# Altium schematic symbol library audio_mic_spk.SchLib: 27 symbols
Pins are listed as number, name and electrical type; pins without a type are passive.

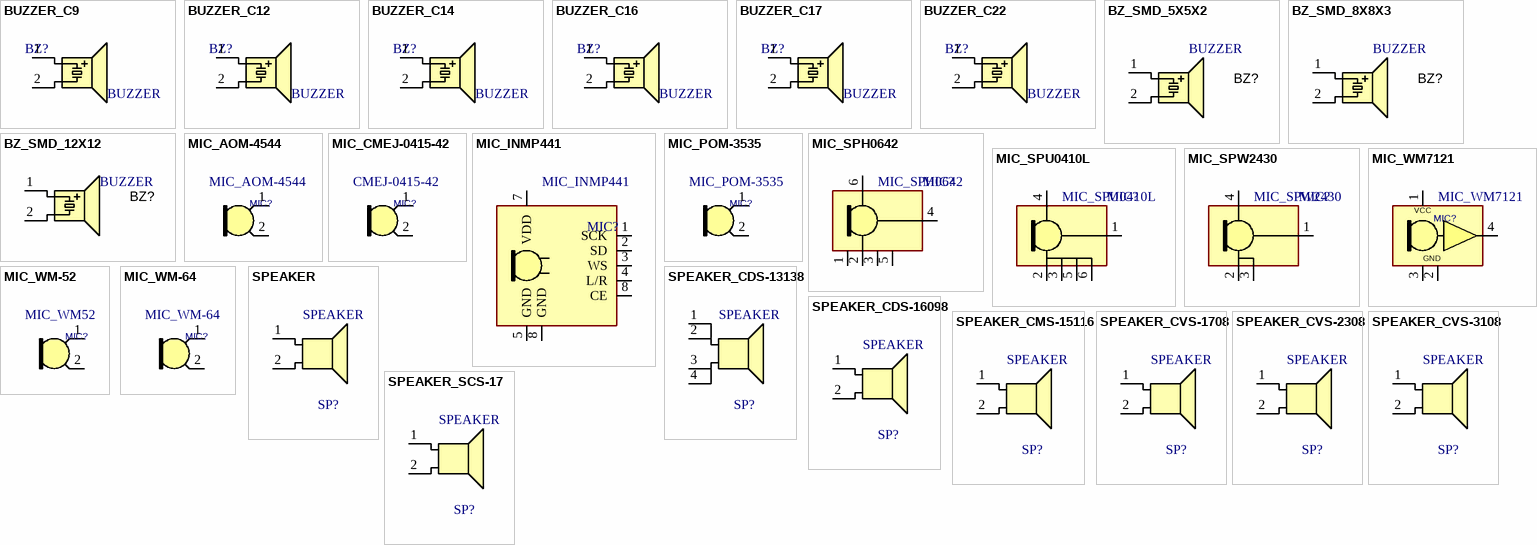
[diagram p0: symbols BUZZER_C9 to SPEAKER_SCS-17]

## BUZZER_C9
designator BZ?, comment BUZZER
Buzzer, 9mm, Magnetic Transducer; MANF: Mallory; MANF_P#: PB-09N23P-03Q; PARAM2: 3V, 30mA; PARAM: 2.7KHz; PRICE: $3; VALUE: BUZZER
footprint BZ_C9 (BUZZER 9mm DIA, 7.62mm pitch)
pins: 1 A, 2 B

## BUZZER_C12
designator BZ?, comment BUZZER
Buzzer, 12X8.5mm, Magnetic Transducer; MANF: Buerklin, CUI; MANF_P#: CM12P, MT03-H1BHP, BMT1205XH7.5, CEM-1201(50); PARAM2: 3~7VCC; PARAM: 2048 ±200 Hz; PRICE: PRICE; VALUE: BUZZER
footprint BZ_C12 (BUZZER 12mm DIA, 8.5mm Height , 7.62mm pitch)
pins: 1 A, 2 B

## BUZZER_C14
designator BZ?, comment BUZZER
Buzzer, 14mm, Magnetic Transducer; MANF: TDK; MANF_P#: PS1440P02BT; PARAM2: 3V; PARAM: 4KHz; PRICE: $0.7; VALUE: BUZZER
footprint BZ_C14 (BUZZER 12mm DIA, 8.5mm Height , 7.62mm pitch)
pins: 1 A, 2 B

## BUZZER_C16
designator BZ?, comment BUZZER
Buzzer, 16mm, Magnetic Transducer; MANF: CUI; MANF_P#: CMI-1614C-120; PARAM2: 12V, 30mA; PARAM: 2.2KHz; PRICE: $3; VALUE: BUZZER
footprint BZ_C16 (BUZZER 16mm DIA, 14mm Height , 7.62mm pitch)
pins: 1 A, 2 B

## BUZZER_C17
designator BZ?, comment BUZZER
Buzzer, 17X4.6mm, Magnetic Transducer; MANF: TDK; MANF_P#: PS1720P02; PARAM2: 3V; PARAM: 2KHz, 70dB; PRICE: $0.7; VALUE: BUZZER
footprint BZ_C17 (BUZZER 17mm DIA, 4.6mm Height , 10mm pitch)
pins: 1 A, 2 B

## BUZZER_C22
designator BZ?, comment BUZZER
Buzzer, 22mm, Magnetic Transducer; MANF: Kobitone; MANF_P#: 254-PB508-ROX; PARAM2: 30V, 4mA; PARAM: 4KHz, 90dB; PRICE: $2; VALUE: BUZZER
footprint BZ_C22 (BUZZER, BUZZER 22mm DIA,)
pins: 1 A, 2 B

## BZ_SMD_5X5X2
designator BZ?, comment BUZZER
Buzzer, SMD, sealed 5.0x5.0x2.1mm LWH 3Vp; PARAM: 4000 ±500 Hz, Magnetic; PARAM2: 4kHz, 78dBA @ 10cm; MANF: PUI Audio, Inc.; MANF_P#: SMT-0540-T-7-R; PRICE: PRICE; Value: BUZZER
footprint BZ_SMD_S5 (Buzzer SMD sealed 5.0 L x 5.0 W x 2.0mm H 5Vp)
pins: 1 A, 2 B

## BZ_SMD_8X8X3
designator BZ?, comment BUZZER
Buzzer, SMD, sealed 8.5x8.5x3mm LWH , 3Vp; PARAM: 2700 Hz, Magnetic; PARAM2: 2.7kHz, 85dBA @ 10cm; MANF: cre-sound; MANF_P#: LET8530BS-03L-2.7-16-R; PRICE: 2t@Javan; Value: BUZZER
footprint BZ_SMD_S8 (Buzzer SMD sealed 8.5 L x 8.5 W x 3.0mm H 3Vp)
pins: 1 A, 2 B

## BZ_SMD_12X12
designator BZ?, comment BUZZER
Buzzer, SMD, 12.8X12.8X7.6mm LWH, Magnetic; PARAM: 2.4KHz, 87dB @ 5V, 10cm; PARAM2: 5VCC, 3~8V, 40mA; MANF: CUI, Mallory Sonalert; MANF_P#: CT-1205-SMT, ASI301Q; PRICE: PRICE; Value: BUZZER
footprint BZ_SMD_S12 (Buzzer SMD sealed 12.8 L x 12.8 W x 7.6mm H 5Vp, CT-1205-SMT)
pins: 1 A, 2 B

## MIC_AOM-4544
designator MIC?
MICROPHONE, 2.2KOHM -44DB TH; MANF: PUI; MANF_P#: AOM-4544P-2-R; PRICE: $1.6; Value: MIC_AOM-4544
footprint MIC_C6 (MIC, WM-63PR, POM-3535P-3-R)
pins: 1 OUT, 2 GND

## MIC_CMEJ-0415-42
designator MIC?, comment CMEJ-0415-42
MICROPHONE, OMNI 4X1.5mm 2.2k -42DB; MANF: CUI; PARAM: -42dB sens, 60 dB SNR, THD 1%; MANF_P#: CMEJ-0415-42-P; PARAM2: 2.2k; PRICE: 0.4$; Value: CMEJ-0415-42
footprint MIC_C4 (MIC, 4mm Diameter)
pins: 1 OUT, 2 GND

## MIC_INMP441
designator MIC?
MICROPHONE, Omnidirectional, I2S; MANF: InvenSense; MANF_P#: INMP441; PRICE: PRICE; VALUE: MIC_INMP441
footprint MIC_MP441 (MIC, 8-LEADS, 4.7X3.7mm, INMP441, ADMP441, LGA_CAV)
pins: 1 SCK, 2 SD, 3 WS, 4 L/R, 5 GND, 7 VDD, 8 CE, 8 GND

## MIC_POM-3535
designator MIC?
MICROPHONE, 2.2KOHM -35DB TH; MANF: PUI; MANF_P#: POM-3535P-3-R; PRICE: $3; Value: MIC_POM-3535
footprint MIC_C6 (MIC, WM-63PR, POM-3535P-3-R)
pins: 1 OUT, 2 GND

## MIC_SPH0642
designator MIC?
MICROPHONE, MEMS; MANF: Knowles; MANF_P#: SPH0642HT5H-1; PRICE: PRICE; VALUE: MIC_SPH0642
footprint MIC_SPH0642 (SPH0642HT5H-1 Knowles MIC-MEMS 6-LEADS, 3.5X2.65mm)
pins: 1 GND1, 2 GND2, 3 GND3, 4 OUT, 5 GND4, 6 VDD

## MIC_SPU0410L
designator MIC?
MICROPHONE, MEMS, 63dB SNR, 100~80kHz; MANF: Knowles; PARAM2: 1.5~3.6v; MANF_P#: SPU0410LR5H-QB; PARAM: 63dB SNR, 100~80kHz; PRICE: 1: 0.7$, 100: 0.45$; VALUE: MIC_SPU0410L
footprint MIC_SPU0410 (SPU0410LR5H, 3.76x3x1.1mm)
pins: 1 OUT, 2 GND1, 3 GND2, 4 VDD, 5 GND3, 6 GND4

## MIC_SPW2430
designator MIC?
MICROPHONE, MEMS, 59dB SNR; MANF: Knowles; PARAM2: 1.5~3.6v; MANF_P#: SPW2430HR5H-B; PARAM: 59dB SNR; PRICE: 1: 0.8$, 100: 0.5$; VALUE: MIC_SPW2430
footprint MIC_4_3225 (MIC SPW2430HR5H-B 3.1X2.5X1mm)
pins: 1 OUT, 2 GND1, 3 GND2, 4 VDD

## MIC_WM7121
designator MIC?
MICROPHONE, MEMS, -38dB; MANF: Cirrus Logic; PARAM2: 3.7V; PARAM: -38dB, 0.2~6KHz; MANF_P#: WM7121PIMSE, WM7121P, WM7121PE; PRICE: $1.8; Value: MIC_WM7121
footprint MIC_WM7121 (MICROPHONE, WM7121)
pins: 1 VDD, 2 GND, 3 GND, 4 OUT
text: VCC

## MIC_WM-52
designator MIC?, comment MIC_WM52
MICROPHONE OMNI; MANF_P#: WM52BM; PRICE: PRICE; Value: MIC_WM52
footprint MIC_C9 (MIC, WM52BM, 9.7mm)
pins: 1 OUT, 2 GND

## MIC_WM-64
designator MIC?
MICROPHONE OMNI 6X2.2MM W/CAP 2.2KOHM -44DB TH; MANF_P#: WM-64PNT; PRICE: PRICE; Value: MIC_WM-64
footprint MIC_C6 (MIC, WM-63PR, POM-3535P-3-R)
pins: 1 OUT, 2 GND

## SPEAKER
designator SP?
PRICE: PRICE; VALUE: SPEAKER
footprint SPK
pins: 1 A, 2 B

## SPEAKER_CDS-13138
designator SP?, comment SPEAKER
SPEAKER, 8Ohm, 87dB, SMD; MANF: CUI; PARAM2: 300mW; MANF_P#: CDS-13138-SMT; PARAM: 8Ohm, 87dB; PRICE: $8; VALUE: SPEAKER
footprint SPK_SMD_S13 (SPEAKER, CDS-13138-SMT 13X13mm)
pins: 1 A, 2, 3, 4

## SPEAKER_CDS-16098
designator SP?, comment SPEAKER
SPEAKER, 8Ohm, 86dB, 0.1~20KHz, SMD; MANF: CUI; PARAM2: 700mW; MANF_P#: CDS-16098A; PARAM: 8Ohm, 86dB, 0.1~20KHz; PRICE: $3.7; VALUE: SPEAKER
footprint SPK_SMD_1609 (SPEAKER, CDS-16098A 16X9X8mm)
pins: 1 A, 2

## SPEAKER_CMS-15116
designator SP?, comment SPEAKER
SPEAKER, 6Ohm, 94dB, 0.4~20KHz, SMD; MANF: CUI; PARAM2: 940mW; MANF_P#: CMS-15116-30-SP; PARAM: 6Ohm, 94dB, 0.4~20KHz; PRICE: $3; VALUE: SPEAKER
footprint SPK_SMD_1511 (SPEAKER, CMS-15116 15X11X6mm)
pins: 1 A, 2

## SPEAKER_CVS-1708
designator SP?, comment SPEAKER
SPEAKER, 8Ohm, 87dB, 200mW; MANF: CUI; PARAM2: 200mW; PARAM: 8Ohm, 87dB; MANF_P#: CVS-1708; PRICE: $3; VALUE: SPEAKER
footprint SPK_C17 (SPEAKER, CVS-1708 17mm DIA)
pins: 1, 2

## SPEAKER_CVS-2308
designator SP?, comment SPEAKER
SPEAKER, 8Ohm, 88dB, 1.2~1.8KHz; MANF: CUI; PARAM2: 100mW; PARAM: 8Ohm, 88dB, 1.2~1.8KHz; MANF_P#: CVS-2308; PRICE: $3; VALUE: SPEAKER
footprint SPK_C23 (SPEAKER, CVS-2308 23mm DIA)
pins: 1, 2

## SPEAKER_CVS-3108
designator SP?, comment SPEAKER
SPEAKER, 8Ohm, 95dB, 1.05~1.45KHz; MANF: CUI; PARAM2: 100mW; PARAM: 8Ohm, 95dB, 1.05~1.45KHz; MANF_P#: CVS-3108; PRICE: $3; VALUE: SPEAKER
footprint SPK_C31 (SPEAKER, CVS-3108 31mm DIA)
pins: 1, 2

## SPEAKER_SCS-17
designator SP?, comment SPEAKER
SPEAKER, Piezo, 92dB, 1.5~8KHz, 5~30V; MANF: Sonitron; MANF_P#: SCS-17P10; PARAM2: 5~30V; PARAM: 92dB, 1.5~8KHz; PRICE: $4; VALUE: SPEAKER
footprint SPK_C17 (SPEAKER, CVS-1708 17mm DIA)
pins: 1, 2